# EAGLE library part ADA-LIS3DH (library busy_cube_lib)
Breakout pins for Adafruit LIS3DH
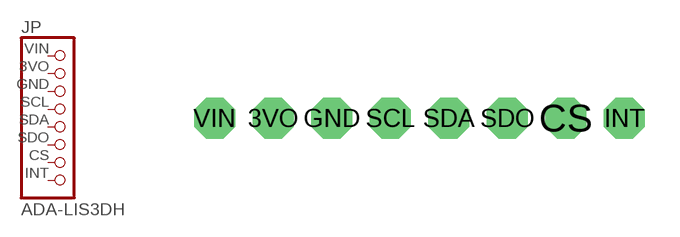
[diagram p2: symbol with the pads of LIS3DH-1X08; footprint LIS3DH-1X08]

Designator prefix JP

## ADA-LIS3DHPADS_ONLY  [LIS3DH-1X08]
3VO  3VO  pas
CS  CS  pas
GND  GND  pas
INT  INT  pas
SCL  SCL  pas
SDA  SDA  pas
SDO  SDO  pas
VIN  VIN  pas

## Footprint LIS3DH-1X08 (pad centres in mm)
drill 1.016 pad 1.778 octagon: 3VO -6.35,0; CS 6.35,0; GND -3.81,0; INT 8.89,0; SCL -1.27,0; SDA 1.27,0; SDO 3.81,0; VIN -8.89,0